# Altium footprint library F_2016_5040.PcbLib: 1 footprints
Each footprint in its own frame and in the unit in brackets; x right, y up, seen from the top. Pads: shape width x height; smd on the part's side, far side on the other; paste and mask are expansions set on the pad; w line width, h text height; cw(c..) or ccw(c..) is an arc to the next point about the centre after c.
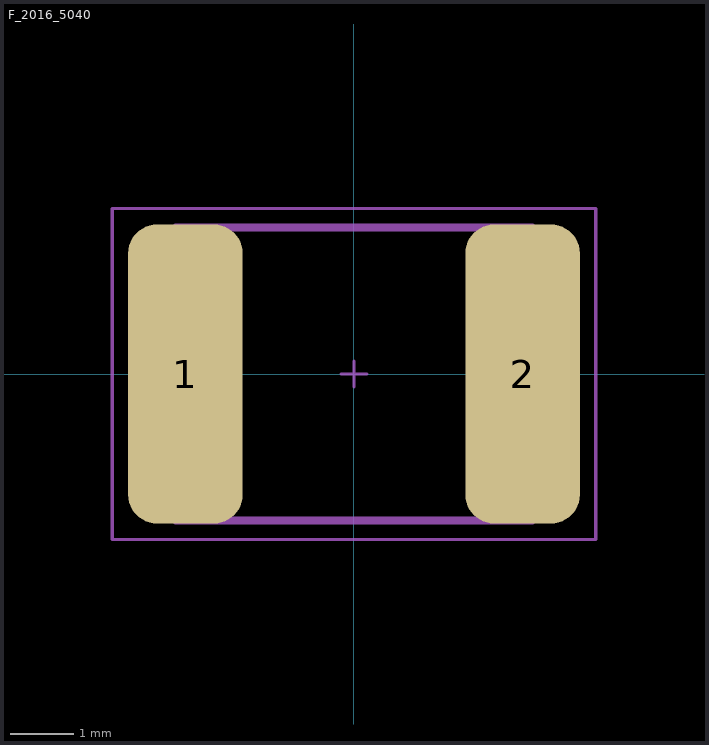
[diagram p0: the footprint, top view; thin cyan lines are the x and y axes]

## F_2016_5040 [mm]
pads (2):
  rrect50% 1.8x4.7 smd paste-0.01 mask+0.05: 1(-2.65,0) 2(2.65,0)
Top Assembly:
  lines w0.127: -2.8,-2.3 -2.8,2.3 2.8,2.3 2.8,-2.3 -2.8,-2.3
Top Courtyard:
  lines w0.05: -0.2,0 0.2,0 ; 0,-0.2 0,0.2 ; -3.8,-2.6 -3.8,2.6 3.8,2.6 3.8,-2.6 -3.8,-2.6
3D body "User Library-Fuse 2016L.step": height 2.03, standoff 0, extent -2.72,-2.255 2.72,2.255